# EAGLE library part QBLP679E-RGB (library quadparts)
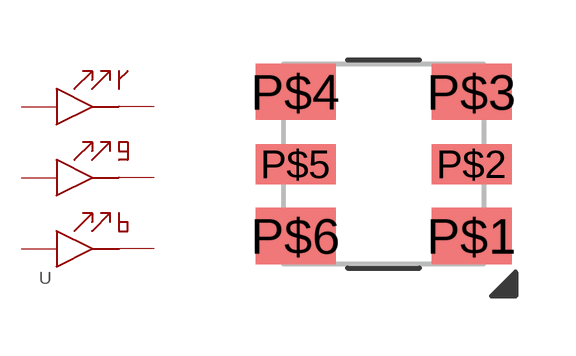
[diagram p1: symbol with the pads of QBLP679E-RGB; footprint QBLP679E-RGB]

Designator prefix -

## QBLP679E-RGB (CREATOR: Xuefei; DIST: DIGIKEY; DISTPN: 1516-1131-1-ND; MFR: QT Brightek (QTB); MPN: QBLP679E-RGB)  [QBLP679E-RGB]
P$1  P$1
P$2  P$2
P$3  P$3
P$4  P$4
P$5  P$5
P$6  P$6

## Footprint QBLP679E-RGB (pad centres in mm)
smd 2 x 1.4: P$1 2.2,-1.8; P$3 2.2,1.8; P$4 -2.2,1.8; P$6 -2.2,-1.8
smd 2 x 1: P$2 2.2,0; P$5 -2.2,0